# Altium footprint library GRC PCB library.PcbLib: 166 footprints (part 10 of 11)
Each footprint in its own frame and in the unit in brackets; x right, y up, seen from the top. Pads: shape width x height; smd on the part's side, far side on the other; paste and mask are expansions set on the pad; w line width, h text height; cw(c..) or ccw(c..) is an arc to the next point about the centre after c.
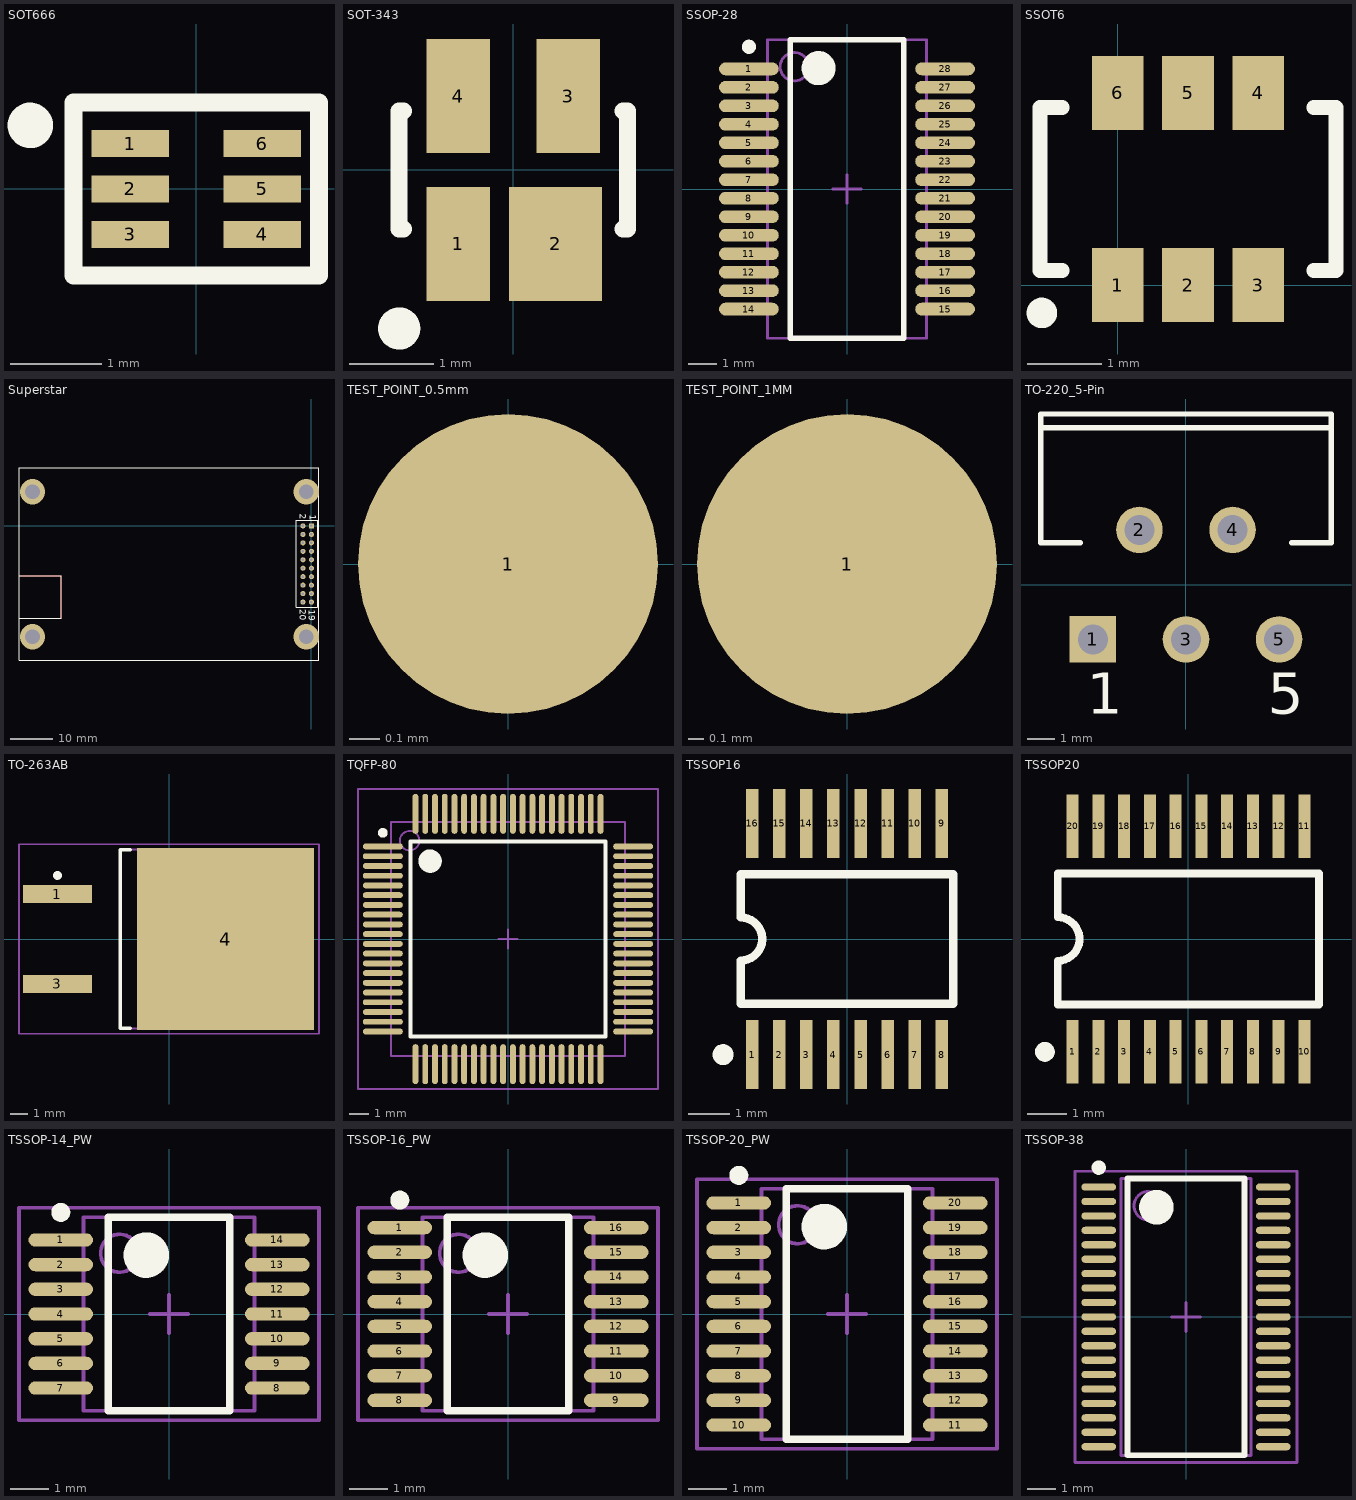
[diagram p9: the footprints below, top view; thin cyan lines are the x and y axes]

## SOT666 [mm] "SOT666 (SC-89) footprint"
height 0.6
pads (6):
  rect 0.85x0.3 smd: 1(-0.725,0.5) 2(-0.725,0) 3(-0.725,-0.5) 4(0.725,-0.5) 5(0.725,0) 6(0.725,0.5)
Top Overlay:
  circle w0.25: c-1.825,0.7 r0.125
  lines w0.2: -1.35,-0.95 -1.35,0.95 1.35,0.95 1.35,-0.95 -1.35,-0.95

## SOT-343 [mm] "SOT-343; 4 Leads; Body 2.2 x 2.2 mm, inc. leads (LxW max)"
height 1
pads (4):
  rect 0.75x1.35 smd: 1(-0.65,-0.875) 3(0.65,0.875) 4(-0.65,0.875)
  rect 1.1x1.35 smd: 2(0.5,-0.875)
Top Overlay:
  circle w0.25: c-1.35,-1.875 r0.125
  lines w0.2: -1.3,-0.7 -1.35,-0.7 -1.35,0.7 -1.3,0.7 ; 1.3,-0.7 1.35,-0.7 1.35,0.7 1.3,0.7

## SSOP-28 [mm] "SOP, 28-Leads, Body 10.5x5.6mm (max), Pitch 0.65mm, IPC Medium Density"
height 2
pads (28):
  oval 2.1x0.45 smd: 1(-3.45,4.225) 2(-3.45,3.575) 3(-3.45,2.925) 4(-3.45,2.275) 5(-3.45,1.625) 6(-3.45,0.975) 7(-3.45,0.325) 8(-3.45,-0.325) 9(-3.45,-0.975) 10(-3.45,-1.625) 11(-3.45,-2.275) 12(-3.45,-2.925) 13(-3.45,-3.575) 14(-3.45,-4.225) 15(3.45,-4.225) 16(3.45,-3.575) 17(3.45,-2.925) 18(3.45,-2.275) 19(3.45,-1.625) 20(3.45,-0.975) 21(3.45,-0.325) 22(3.45,0.325) 23(3.45,0.975) 24(3.45,1.625) 25(3.45,2.275) 26(3.45,2.925) 27(3.45,3.575) 28(3.45,4.225)
Top Overlay:
  circle w0.25: c-3.45,5 r0.125
  circle w0.6: c-1,4.25 r0.3
  lines w0.2: -2,-5.25 -2,5.25 2,5.25 2,-5.25 -2,-5.25
Mechanical 13:
  circle w0.1: c-1.85,4.3 r0.5
  lines w0.1: -2.8,-5.25 -2.8,5.25 2.8,5.25 2.8,-5.25 -2.8,-5.25
Mechanical 15:
  lines w0.1: -0.5,0 0.5,0 ; 0,-0.5 0,0.5
3D body: height 2, standoff 0.09, extent -2.8,-5.25 2.8,5.25

## SSOT6 [mm]
height 1
pads (6):
  rect 0.7x1 smd: 1(0,0) 2(0.95,0) 3(1.9,0) 4(1.9,2.6) 5(0.95,2.6) 6(0,2.6)
Top Overlay:
  circle w0.254: c-1.025,-0.375 r0.079
  lines w0.2: -0.75,0.2 -1.05,0.2 -1.05,2.4 -0.75,2.4 ; 2.65,0.2 2.95,0.2 2.95,2.4 2.65,2.4

## Superstar [mm] "Created by Ants June 08 for novatel baseboard"
pads (20):
  rect 1.2x1.2 hole 0.6: 1(0,0)
  round 1.2 hole 0.6: 2(-2,0) 3(0,-2) 4(-2,-2) 5(0,-4) 6(-2,-4) 7(0,-6) 8(-2,-6) 9(0,-8) 10(-2,-8) 11(0,-10) 12(-2,-10) 13(0,-12) 14(-2,-12) 15(0,-14) 16(-2,-14) 17(0,-16) 18(-2,-16) 19(0,-18) 20(-2,-18)
via -66,8.1 diameter 6 hole 3.5
via -1.2,8.1 diameter 6 hole 3.5
via -1.2,-26.2 diameter 6 hole 3.5
via -66,-26.2 diameter 6 hole 3.5
Top Layer:
  lines w0.254: -69.2,-21.8 -59.2,-21.8 -59.2,-11.9 ; -69.2,-11.8 -59.2,-11.8
Top Overlay:
  lines w0.2: 1.445,-19.2 -3.6,-19.2 -3.6,1.4 -0.6,1.4 1.458,1.4 ; 1.5,-19.2 1.5,1.4 ; -69.2,-31.8 -69.2,13.8 1.55,13.8 1.8,13.8 1.8,13.55 1.8,-31.8 -69.2,-31.8
  lines w0.254: -69.2,-21.8 -59.2,-21.8 -59.2,-11.8 -69.2,-11.8
  text "20" at -2.8,-19.7 h1.52
  text "19" at -0.6,-19.8 h1.52
  text "2" at -2.7,2.9 h1.52
  text "1" at -0.4,2.6 h1.52
Multi-Layer:
  text "NOT CHECKED" at -76,-15.9 h8

## TEST_POINT_0.5mm [mm] "0.5mm radius/1mm dia test point"
pads (1):
  round 1 smd: 1(0,0)

## TEST_POINT_1MM [mm] "Test Point Pad"
height 0.01
pads (1):
  round 2 smd: 1(0,0)

## TO-220_5-Pin [mm] "5 pin TO-220 Package"
height 21.055
pads (5):
  rect 1.7x1.7 hole 1.1: 1(-3.4,-2)
  round 1.7 hole 1.1: 2(-1.7,2) 3(0,-2) 4(1.7,2) 5(3.4,-2)
Top Overlay:
  lines w0.2: -5.3,5.73 5.3,5.73 ; -3.854,1.53 -5.3,1.53 -5.3,6.23 5.3,6.23 5.3,1.53 3.854,1.53
  text "1" at -3.62,-4.725 h1.5
  text "5" at 2.98,-4.725 h1.5

## TO-263AB [mm] "D2-PAK, 3-Pads, Body 9.4x10.1mm (max), IPC Medium Density"
height 4.7
pads (3):
  rect 3.9x1 smd: 1(-6.3,2.54) 3(-6.3,-2.54)
  rect 10x10.3 smd: 4(3.2,0)
Top Overlay:
  circle w0.25: c-6.3,3.59 r0.125
  lines w0.2: -2.2,-5.05 -2.75,-5.05 -2.75,5.05 -2.2,5.05
Mechanical 13:
  lines w0.1: -2.75,-5.05 6.65,-5.05 6.65,5.05 -2.75,5.05 -2.75,-5.05
Mechanical 15:
  lines w0.1: -0.5,0 0.5,0 ; 0,-0.5 0,0.5 ; -8.475,-5.35 8.475,-5.35 8.475,5.35 -8.475,5.35 -8.475,-5.35
3D body: height 4.7, standoff -0.05, extent -2.75,-5.05 6.65,5.05

## TQFP-80 [mm] "TSQFP, 80-Leads, Body 14.2x14.2mm (max), Pitch 0.50mm, IPC Medium Density"
height 1.6
pads (80):
  oval 2.05x0.3 smd: 1(-6.425,4.75) 2(-6.425,4.25) 3(-6.425,3.75) 4(-6.425,3.25) 5(-6.425,2.75) 6(-6.425,2.25) 7(-6.425,1.75) 8(-6.425,1.25) 9(-6.425,0.75) 10(-6.425,0.25) 11(-6.425,-0.25) 12(-6.425,-0.75) 13(-6.425,-1.25) 14(-6.425,-1.75) 15(-6.425,-2.25) 16(-6.425,-2.75) 17(-6.425,-3.25) 18(-6.425,-3.75) 19(-6.425,-4.25) 20(-6.425,-4.75) 41(6.425,-4.75) 42(6.425,-4.25) 43(6.425,-3.75) 44(6.425,-3.25) 45(6.425,-2.75) 46(6.425,-2.25) 47(6.425,-1.75) 48(6.425,-1.25) 49(6.425,-0.75) 50(6.425,-0.25) 51(6.425,0.25) 52(6.425,0.75) 53(6.425,1.25) 54(6.425,1.75) 55(6.425,2.25) 56(6.425,2.75) 57(6.425,3.25) 58(6.425,3.75) 59(6.425,4.25) 60(6.425,4.75)
  oval 0.3x2.05 smd: 21(-4.75,-6.425) 22(-4.25,-6.425) 23(-3.75,-6.425) 24(-3.25,-6.425) 25(-2.75,-6.425) 26(-2.25,-6.425) 27(-1.75,-6.425) 28(-1.25,-6.425) 29(-0.75,-6.425) 30(-0.25,-6.425) 31(0.25,-6.425) 32(0.75,-6.425) 33(1.25,-6.425) 34(1.75,-6.425) 35(2.25,-6.425) 36(2.75,-6.425) 37(3.25,-6.425) 38(3.75,-6.425) 39(4.25,-6.425) 40(4.75,-6.425) 61(4.75,6.425) 62(4.25,6.425) 63(3.75,6.425) 64(3.25,6.425) 65(2.75,6.425) 66(2.25,6.425) 67(1.75,6.425) 68(1.25,6.425) 69(0.75,6.425) 70(0.25,6.425) 71(-0.25,6.425) 72(-0.75,6.425) 73(-1.25,6.425) 74(-1.75,6.425) 75(-2.25,6.425) 76(-2.75,6.425) 77(-3.25,6.425) 78(-3.75,6.425) 79(-4.25,6.425) 80(-4.75,6.425)
Top Overlay:
  circle w0.25: c-6.425,5.45 r0.125
  circle w0.6: c-4,4 r0.3
  lines w0.2: -5,-5 -5,5 5,5 5,-5 -5,-5
Mechanical 13:
  circle w0.1: c-5.05,5.05 r0.5
  lines w0.1: -6,-6 -6,6 6,6 6,-6 -6,-6
Mechanical 15:
  lines w0.1: -0.5,0 0.5,0 ; 0,-0.5 0,0.5 ; -7.7,-7.7 -7.7,7.7 7.7,7.7 7.7,-7.7 -7.7,-7.7
3D body: height 1.6, standoff 0.05, extent -6,-6 6,6

## TSSOP16 [mm] "Shrink Small Outline; 16 Leads; Body Width 4.4 mm; Pitch 0.65 mm"
height 1.1
pads (16):
  rect 0.3x1.65 smd: 1(-2.275,-2.775) 2(-1.625,-2.775) 3(-0.975,-2.775) 4(-0.325,-2.775) 5(0.325,-2.775) 6(0.975,-2.775) 7(1.625,-2.775) 8(2.275,-2.775) 9(2.275,2.775) 10(1.625,2.775) 11(0.975,2.775) 12(0.325,2.775) 13(-0.325,2.775) 14(-0.975,2.775) 15(-1.625,2.775) 16(-2.275,2.775)
Top Overlay:
  circle w0.25: c-2.975,-2.775 r0.125
  lines w0.2: -2.55,-1.55 2.55,-1.55 2.55,1.55 -2.55,1.55 -2.55,0.517 cw(c-2.55,0) -2.55,-0.517 -2.55,-1.55

## TSSOP20 [mm] "Shrink Small Outline; 20 Leads; Body Width 4.4 mm; Pitch 0.65 mm"
height 1.1
pads (20):
  rect 0.3x1.6 smd: 1(-2.925,-2.85) 2(-2.275,-2.85) 3(-1.625,-2.85) 4(-0.975,-2.85) 5(-0.325,-2.85) 6(0.325,-2.85) 7(0.975,-2.85) 8(1.625,-2.85) 9(2.275,-2.85) 10(2.925,-2.85) 11(2.925,2.85) 12(2.275,2.85) 13(1.625,2.85) 14(0.975,2.85) 15(0.325,2.85) 16(-0.325,2.85) 17(-0.975,2.85) 18(-1.625,2.85) 19(-2.275,2.85) 20(-2.925,2.85)
Top Overlay:
  circle w0.25: c-3.625,-2.85 r0.125
  lines w0.2: -3.3,-1.65 -3.3,-0.55 ccw(c-3.3,0) -3.3,0.55 -3.3,1.65 3.3,1.65 3.3,-1.65 -3.3,-1.65

## TSSOP-14_PW [mm] "TSOP, 14-Leads, Body 5.1x4.5mm (max), Pitch 0.65mm, IPC Medium Density"
height 1.2
pads (14):
  oval 1.7x0.35 smd: 1(-2.85,1.95) 2(-2.85,1.3) 3(-2.85,0.65) 4(-2.85,0) 5(-2.85,-0.65) 6(-2.85,-1.3) 7(-2.85,-1.95) 8(2.85,-1.95) 9(2.85,-1.3) 10(2.85,-0.65) 11(2.85,0) 12(2.85,0.65) 13(2.85,1.3) 14(2.85,1.95)
Top Overlay:
  circle w0.25: c-2.85,2.675 r0.125
  circle w0.6: c-0.6,1.55 r0.3
  lines w0.2: -1.6,-2.55 -1.6,2.55 1.6,2.55 1.6,-2.55 -1.6,-2.55
Mechanical 13:
  circle w0.1: c-1.3,1.6 r0.5
  lines w0.1: -2.25,-2.55 -2.25,2.55 2.25,2.55 2.25,-2.55 -2.25,-2.55
Mechanical 15:
  lines w0.1: -0.5,0 0.5,0 ; 0,-0.5 0,0.5 ; -3.95,-2.8 -3.95,2.8 3.95,2.8 3.95,-2.8 -3.95,-2.8
3D body: height 1.2, standoff 0.15, extent -2.25,-2.55 2.25,2.55

## TSSOP-16_PW [mm] "TSOP, 16-Leads, Body 5.1x4.5mm (max), Pitch 0.65mm, IPC Medium Density"
height 1.2
pads (16):
  oval 1.7x0.35 smd: 1(-2.85,2.275) 2(-2.85,1.625) 3(-2.85,0.975) 4(-2.85,0.325) 5(-2.85,-0.325) 6(-2.85,-0.975) 7(-2.85,-1.625) 8(-2.85,-2.275) 9(2.85,-2.275) 10(2.85,-1.625) 11(2.85,-0.975) 12(2.85,-0.325) 13(2.85,0.325) 14(2.85,0.975) 15(2.85,1.625) 16(2.85,2.275)
Top Overlay:
  circle w0.6: c-0.6,1.55 r0.3
  circle w0.25: c-2.85,3 r0.125
  lines w0.2: -1.6,-2.55 1.6,-2.55 1.6,2.55 -1.6,2.55 -1.6,-2.55
Mechanical 13:
  circle w0.1: c-1.3,1.6 r0.5
  lines w0.1: -2.25,-2.55 2.25,-2.55 2.25,2.55 -2.25,2.55 -2.25,-2.55
Mechanical 15:
  lines w0.1: -0.5,0 0.5,0 ; 0,-0.5 0,0.5 ; -3.95,-2.8 3.95,-2.8 3.95,2.8 -3.95,2.8 -3.95,-2.8
3D body: height 1.2, standoff 0.15, extent -2.25,-2.55 2.25,2.55

## TSSOP-20_PW [mm] "TSOP, 20-Leads, Body 6.6x4.5mm (max), Pitch 0.65mm, IPC Medium Density"
height 1.2
pads (20):
  oval 1.7x0.35 smd: 1(-2.85,2.925) 2(-2.85,2.275) 3(-2.85,1.625) 4(-2.85,0.975) 5(-2.85,0.325) 6(-2.85,-0.325) 7(-2.85,-0.975) 8(-2.85,-1.625) 9(-2.85,-2.275) 10(-2.85,-2.925) 11(2.85,-2.925) 12(2.85,-2.275) 13(2.85,-1.625) 14(2.85,-0.975) 15(2.85,-0.325) 16(2.85,0.325) 17(2.85,0.975) 18(2.85,1.625) 19(2.85,2.275) 20(2.85,2.925)
Top Overlay:
  circle w0.6: c-0.6,2.3 r0.3
  circle w0.25: c-2.85,3.65 r0.125
  lines w0.2: -1.6,-3.3 1.6,-3.3 1.6,3.3 -1.6,3.3 -1.6,-3.3
Mechanical 13:
  circle w0.1: c-1.3,2.35 r0.5
  lines w0.1: -2.25,-3.3 2.25,-3.3 2.25,3.3 -2.25,3.3 -2.25,-3.3
Mechanical 15:
  lines w0.1: -0.5,0 0.5,0 ; 0,-0.5 0,0.5 ; -3.95,-3.55 3.95,-3.55 3.95,3.55 -3.95,3.55 -3.95,-3.55
3D body: height 1.2, standoff 0.15, extent -2.25,-3.3 2.25,3.3

## TSSOP-38 [mm] "TSSOP, 38-Leads, Body 9.6x4.5mm (max), Pitch 0.50mm, IPC Medium Density"
height 0.95
pads (38):
  oval 1.2x0.25 smd: 1(-3.025,4.5) 2(-3.025,4) 3(-3.025,3.5) 4(-3.025,3) 5(-3.025,2.5) 6(-3.025,2) 7(-3.025,1.5) 8(-3.025,1) 9(-3.025,0.5) 10(-3.025,0) 11(-3.025,-0.5) 12(-3.025,-1) 13(-3.025,-1.5) 14(-3.025,-2) 15(-3.025,-2.5) 16(-3.025,-3) 17(-3.025,-3.5) 18(-3.025,-4) 19(-3.025,-4.5) 20(3.025,-4.5) 21(3.025,-4) 22(3.025,-3.5) 23(3.025,-3) 24(3.025,-2.5) 25(3.025,-2) 26(3.025,-1.5) 27(3.025,-1) 28(3.025,-0.5) 29(3.025,0) 30(3.025,0.5) 31(3.025,1) 32(3.025,1.5) 33(3.025,2) 34(3.025,2.5) 35(3.025,3) 36(3.025,3.5) 37(3.025,4) 38(3.025,4.5)
Top Overlay:
  circle w0.25: c-3.025,5.175 r0.125
  circle w0.6: c-1.025,3.8 r0.3
  lines w0.2: -2.025,-4.8 -2.025,4.8 2.025,4.8 2.025,-4.8 -2.025,-4.8
Mechanical 13:
  circle w0.1: c-1.3,3.85 r0.5
  lines w0.1: -2.25,-4.8 -2.25,4.8 2.25,4.8 2.25,-4.8 -2.25,-4.8
Mechanical 15:
  lines w0.1: -0.5,0 0.5,0 ; 0,-0.5 0,0.5 ; -3.85,-5.05 -3.85,5.05 3.85,5.05 3.85,-5.05 -3.85,-5.05
3D body: height 0.95, standoff 0.15, extent -2.25,-4.8 2.25,4.8